# EAGLE library part ESP07-16PIN (library esp8266-modules)
ESP8266 Wifi module 07 - 16 pins
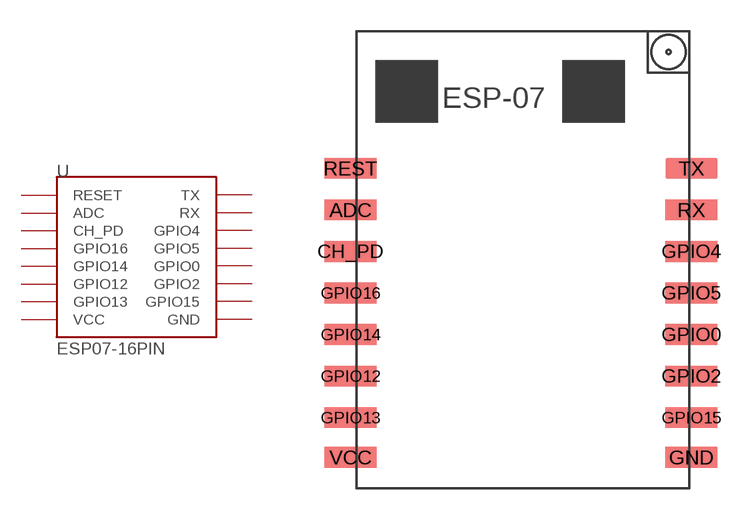
[diagram p11: symbol with the pads of ESP07-16PIN; footprint ESP07-16PIN]

Designator prefix -

## ESP07-16PIN (DIMENSIONS: 22.0 x 16.0 mm; PINS: 16; PITCH: 0.078" / 2 mm)  [ESP07-16PIN]
ADC  ADC
CH_PD  CH_PD
GND  GND
GPIO0  GPIO0
GPIO2  GPIO2
GPIO4  GPIO4
GPIO5  GPIO5
GPIO12  GPIO12
GPIO13  GPIO13
GPIO14  GPIO14
GPIO15  GPIO15
GPIO16  GPIO16
REST  RESET
RX  RX
TX  TX
VCC  VCC

## Footprint ESP07-16PIN (pad centres in mm)
ESP8266 Module ESP-07 - 16 pins
smd 2.5 x 1: ADC -8.2,3.8; CH_PD -8.2,1.8; GND 8.2,-8.105; GPIO0 8.2,-2.2; GPIO2 8.2,-4.2; GPIO4 8.2,1.8; GPIO5 8.2,-0.2; GPIO12 -8.2,-4.2; GPIO13 -8.2,-6.2; GPIO14 -8.2,-2.2; GPIO15 8.2,-6.2; GPIO16 -8.2,-0.2; REST -8.2,5.8; RX 8.2,3.8; TX 8.2,5.8; VCC -8.2,-8.105